# EAGLE library part SBH41-NBPB-D07-ST (library con-sullins)
HEADER
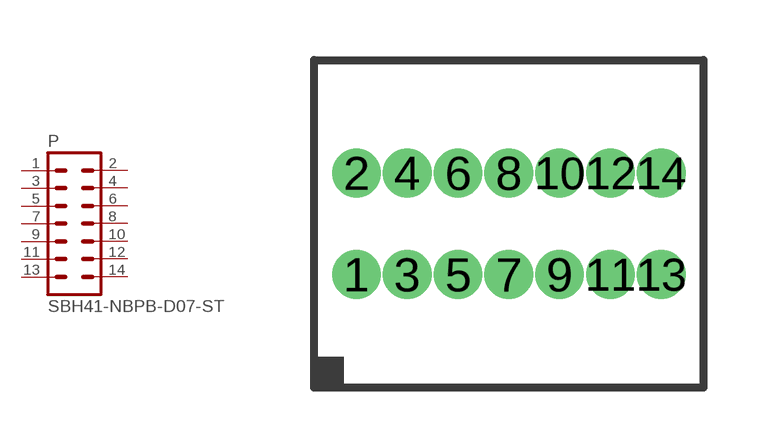
[diagram p60: symbol with the pads of SBH41-NBPB-D07-ST; footprint SBH41-NBPB-D07-ST]

Designator prefix P

## SBH41-NBPB-D07-ST  [SBH41-NBPB-D07-ST]
1  1  pas
2  2  pas
3  3  pas
4  4  pas
5  5  pas
6  6  pas
7  7  pas
8  8  pas
9  9  pas
10  10  pas
11  11  pas
12  12  pas
13  13  pas
14  14  pas

## Footprint SBH41-NBPB-D07-ST (pad centres in mm)
HEADER
drill 0.711: 1 -3.81,-1.27; 2 -3.81,1.27; 3 -2.54,-1.27; 4 -2.54,1.27; 5 -1.27,-1.27; 6 -1.27,1.27; 7 0,-1.27; 8 0,1.27; 9 1.27,-1.27; 10 1.27,1.27; 11 2.54,-1.27; 12 2.54,1.27; 13 3.81,-1.27; 14 3.81,1.27